# Altium footprint library PCB - RESISTOR - ARRAY - RESNET 0804-8 CONVEX.PcbLib: 1 footprints
Each footprint in its own frame and in the unit in brackets; x right, y up, seen from the top. Pads: shape width x height; smd on the part's side, far side on the other; paste and mask are expansions set on the pad; w line width, h text height; cw(c..) or ccw(c..) is an arc to the next point about the centre after c.
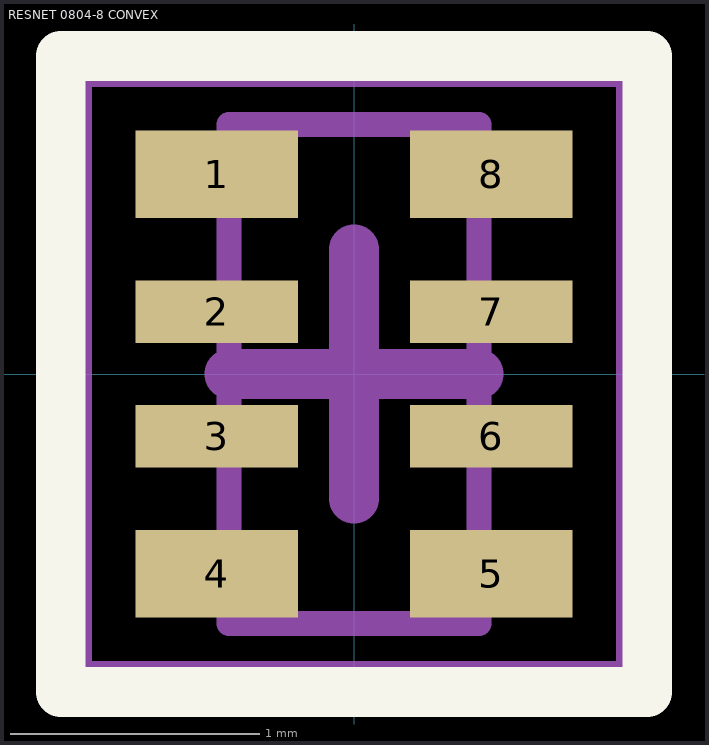
[diagram p0: the footprint, top view; thin cyan lines are the x and y axes]

## RESNET 0804-8 CONVEX [mm] "4 resistor 2.0x1.0mm, 0.65mm high"
height 0.65
pads (8):
  rect 0.65x0.35 smd: 1(-0.55,0.8) 4(-0.55,-0.8) 5(0.55,-0.8) 8(0.55,0.8)
  rect 0.65x0.25 smd: 2(-0.55,0.25) 3(-0.55,-0.25) 6(0.55,-0.25) 7(0.55,0.25)
Top Overlay:
  lines w0.2: -1.175,-1.275 1.175,-1.275 1.175,1.275 -1.175,1.275 -1.175,-1.275
Mechanical 13:
  lines w0.1: -0.5,-1 -0.5,1 0.5,1 0.5,-1 -0.5,-1
Mechanical 15:
  lines w0.05: -1.075,-1.175 -1.075,1.175 1.075,1.175 1.075,-1.175 -1.075,-1.175
Mechanical 9:
  lines w0.2: -0.5,0 0.5,0 ; 0,-0.5 0,0.5
3D body "RESNET - 0804 Convex.step": height 0.56, standoff 0, extent -0.525,-1.025 0.525,1.025